# EAGLE library part TRF7970A (library everykey)
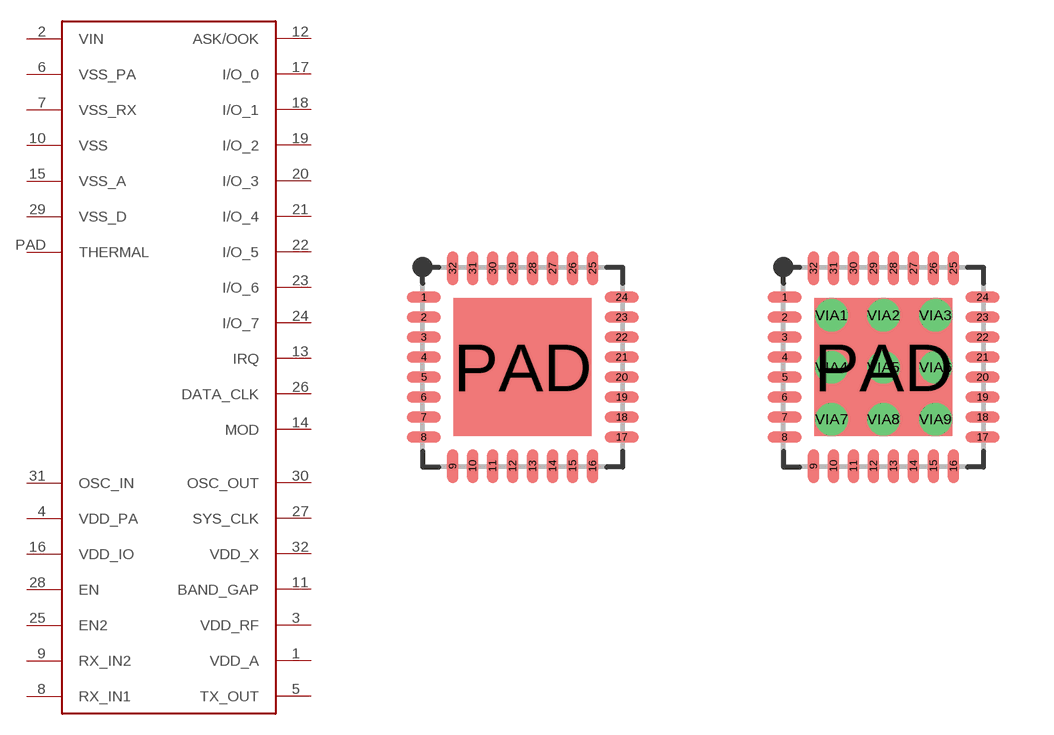
[diagram p53: symbol with the pads of QFN32-0.5-EP; footprints QFN32-0.5-EP, QFN32-0.5-EP-VIAS]

Designator prefix -

## TRF7970ANOVIAS  [QFN32-0.5-EP]
1  VDD_A  out
2  VIN  sup
3  VDD_RF  out
4  VDD_PA  in
5  TX_OUT  out
6  VSS_PA  sup
7  VSS_RX  sup
8  RX_IN1  in
9  RX_IN2  in
10  VSS  sup
11  BAND_GAP  out
12  ASK/OOK
13  IRQ  out
14  MOD  in
15  VSS_A  sup
16  VDD_IO  in
17  I/O_0
18  I/O_1
19  I/O_2
20  I/O_3
21  I/O_4
22  I/O_5
23  I/O_6
24  I/O_7
25  EN2  in
26  DATA_CLK  in
27  SYS_CLK  out
28  EN  in
29  VSS_D  sup
30  OSC_OUT  out
31  OSC_IN  in
32  VDD_X  out
PAD  THERMAL  sup

## TRF7970AVIAS  [QFN32-0.5-EP-VIAS]
1  VDD_A  out
2  VIN  sup
3  VDD_RF  out
4  VDD_PA  in
5  TX_OUT  out
6  VSS_PA  sup
7  VSS_RX  sup
8  RX_IN1  in
9  RX_IN2  in
10  VSS  sup
11  BAND_GAP  out
12  ASK/OOK
13  IRQ  out
14  MOD  in
15  VSS_A  sup
16  VDD_IO  in
17  I/O_0
18  I/O_1
19  I/O_2
20  I/O_3
21  I/O_4
22  I/O_5
23  I/O_6
24  I/O_7
25  EN2  in
26  DATA_CLK  in
27  SYS_CLK  out
28  EN  in
29  VSS_D  sup
30  OSC_OUT  out
31  OSC_IN  in
32  VDD_X  out
PAD  THERMAL  sup
VIA1  THERMAL  sup
VIA2  THERMAL  sup
VIA3  THERMAL  sup
VIA4  THERMAL  sup
VIA5  THERMAL  sup
VIA6  THERMAL  sup
VIA7  THERMAL  sup
VIA8  THERMAL  sup
VIA9  THERMAL  sup

## Footprint QFN32-0.5-EP (pad centres in mm)
QFN package, 32 pins, 0.5mm pitch, exposed pad
smd 0.85 x 0.28: 1 -2.475,1.75; 2 -2.475,1.25; 3 -2.475,0.75; 4 -2.475,0.25; 5 -2.475,-0.25; 6 -2.475,-0.75; 7 -2.475,-1.25; 8 -2.475,-1.75; 17 2.475,-1.75; 18 2.475,-1.25; 19 2.475,-0.75; 20 2.475,-0.25; 21 2.475,0.25; 22 2.475,0.75; 23 2.475,1.25; 24 2.475,1.75
smd 0.28 x 0.85: 9 -1.75,-2.475; 10 -1.25,-2.475; 11 -0.75,-2.475; 12 -0.25,-2.475; 13 0.25,-2.475; 14 0.75,-2.475; 15 1.25,-2.475; 16 1.75,-2.475; 25 1.75,2.475; 26 1.25,2.475; 27 0.75,2.475; 28 0.25,2.475; 29 -0.25,2.475; 30 -0.75,2.475; 31 -1.25,2.475; 32 -1.75,2.475
smd 3.45 x 3.45: PAD 0,0

## Footprint QFN32-0.5-EP-VIAS (pad centres in mm)
QFN package, 32 pins, 0.5mm pitch, exposed pad with 9 thermal vias
smd 0.85 x 0.28: 1 -2.475,1.75; 2 -2.475,1.25; 3 -2.475,0.75; 4 -2.475,0.25; 5 -2.475,-0.25; 6 -2.475,-0.75; 7 -2.475,-1.25; 8 -2.475,-1.75; 17 2.475,-1.75; 18 2.475,-1.25; 19 2.475,-0.75; 20 2.475,-0.25; 21 2.475,0.25; 22 2.475,0.75; 23 2.475,1.25; 24 2.475,1.75
smd 0.28 x 0.85: 9 -1.75,-2.475; 10 -1.25,-2.475; 11 -0.75,-2.475; 12 -0.25,-2.475; 13 0.25,-2.475; 14 0.75,-2.475; 15 1.25,-2.475; 16 1.75,-2.475; 25 1.75,2.475; 26 1.25,2.475; 27 0.75,2.475; 28 0.25,2.475; 29 -0.25,2.475; 30 -0.75,2.475; 31 -1.25,2.475; 32 -1.75,2.475
smd 3.45 x 3.45: PAD 0,0
drill 0.3: VIA1 -1.3,1.3; VIA2 0,1.3; VIA3 1.3,1.3; VIA4 -1.3,0; VIA5 0,0; VIA6 1.3,0; VIA7 -1.3,-1.3; VIA8 0,-1.3; VIA9 1.3,-1.3